# Altium schematic symbol library RT0603BRD0750RL.SchLib: 2 symbols
Pins are listed as number, name and electrical type; pins without a type are passive.

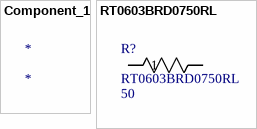
[diagram p0: symbols Component_1 to RT0603BRD0750RL]

## Component_1
designator *

## RT0603BRD0750RL
designator R?  value 50
No Description Available; Manufacturer_Name: Yageo; Copyright: Copyright (C) 2025 Ultra Librarian. All rights reserved.; Manufacturer_Part_Number: RT0603BRD0750RL
footprint RES_RT0603_YAG
pins: 1, 2